# EAGLE library part MCP2515 (library Shohei)
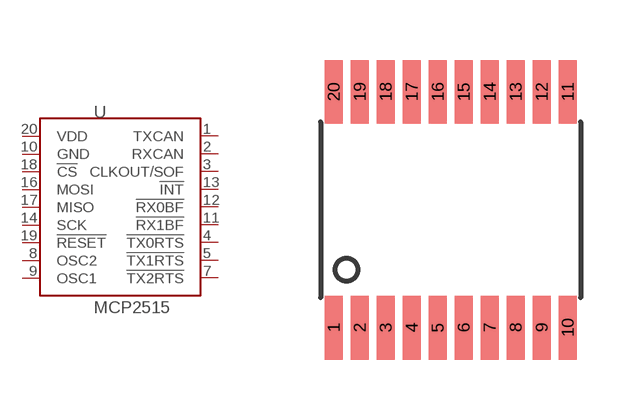
[diagram p18: symbol with the pads of TSSOP20; footprint TSSOP20]

Designator prefix -

## MCP2515TSSOP20  [TSSOP20]
1  TXCAN
2  RXCAN
3  CLKOUT/SOF
4  !TX0RTS
5  !TX1RTS
7  !TX2RTS
8  OSC2
9  OSC1
10  GND
11  !RX1BF
12  !RX0BF
13  !INT
14  SCK
16  MOSI
17  MISO
18  !CS
19  !RESET
20  VDD

## Footprint TSSOP20 (pad centres in mm)
smd 0.45 x 1.6: 1 -2.925,-2.95; 2 -2.275,-2.95; 3 -1.625,-2.95; 4 -0.975,-2.95; 5 -0.325,-2.95; 6 0.325,-2.95; 7 0.975,-2.95; 8 1.625,-2.95; 9 2.275,-2.95; 10 2.925,-2.95; 11 2.925,2.95; 12 2.275,2.95; 13 1.625,2.95; 14 0.975,2.95; 15 0.325,2.95; 16 -0.325,2.95; 17 -0.975,2.95; 18 -1.625,2.95; 19 -2.275,2.95; 20 -2.925,2.95